# EAGLE library part AD5259 (library Mikes-Stuff)
5K digital potentiometer with 2 I2C pins
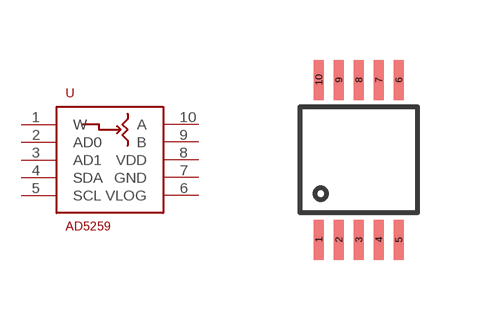
[diagram p17: symbol with the pads of MSOP-10; footprint MSOP-10]

Designator prefix -

## AD5259MSOP-10  [MSOP-10]
1  W
2  AD0
3  AD1
4  SDA
5  SCL
6  VLOG
7  GND
8  VDD
9  B
10  A

## Footprint MSOP-10 (pad centres in mm)
smd 0.25 x 1: 1 -1,-2; 2 -0.5,-2; 3 0,-2; 4 0.5,-2; 5 1,-2; 6 1,2; 7 0.5,2; 8 0,2; 9 -0.5,2; 10 -1,2